# EAGLE library part 74*4245A (library IC)
Octal bus bidirectional voltage translator from 3.3v to 5v
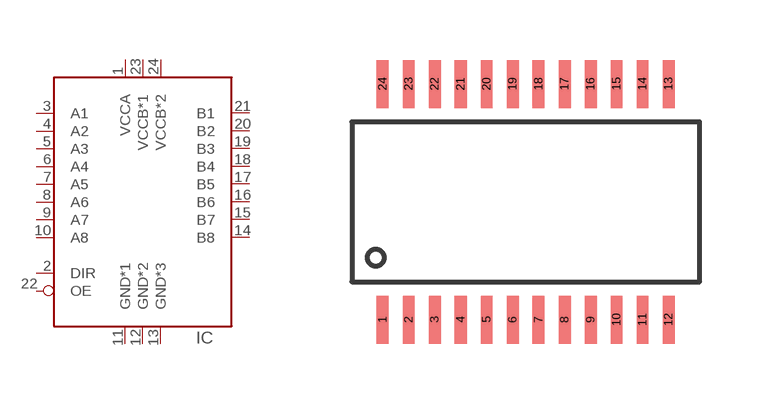
[diagram p29: symbol with the pads of TSSOP24; footprint TSSOP24]

Designator prefix IC

## 744245A-PW  [TSSOP24]
1  VCCA  pwr
2  DIR
3  A1
4  A2
5  A3
6  A4
7  A5
8  A6
9  A7
10  A8
11  GND*1  pwr
12  GND*2  pwr
13  GND*3  pwr
14  B8
15  B7
16  B6
17  B5
18  B4
19  B3
20  B2
21  B1
22  OE
23  VCCB*1  pwr
24  VCCB*2  pwr

## Footprint TSSOP24 (pad centres in mm)
smd 0.3 x 1.2: 1 -3.575,-2.95; 2 -2.925,-2.95; 3 -2.275,-2.95; 4 -1.625,-2.95; 5 -0.975,-2.95; 6 -0.325,-2.95; 7 0.325,-2.95; 8 0.975,-2.95; 9 1.625,-2.95; 10 2.275,-2.95; 11 2.925,-2.95; 12 3.575,-2.95; 13 3.575,2.95; 14 2.925,2.95; 15 2.275,2.95; 16 1.625,2.95; 17 0.975,2.95; 18 0.325,2.95; 19 -0.325,2.95; 20 -0.975,2.95; 21 -1.625,2.95; 22 -2.275,2.95; 23 -2.925,2.95; 24 -3.575,2.95